# Altium footprint library Custom library.PcbLib: 80 footprints (part 3 of 5)
Each footprint in its own frame and in the unit in brackets; x right, y up, seen from the top. Pads: shape width x height; smd on the part's side, far side on the other; paste and mask are expansions set on the pad; w line width, h text height; cw(c..) or ccw(c..) is an arc to the next point about the centre after c.
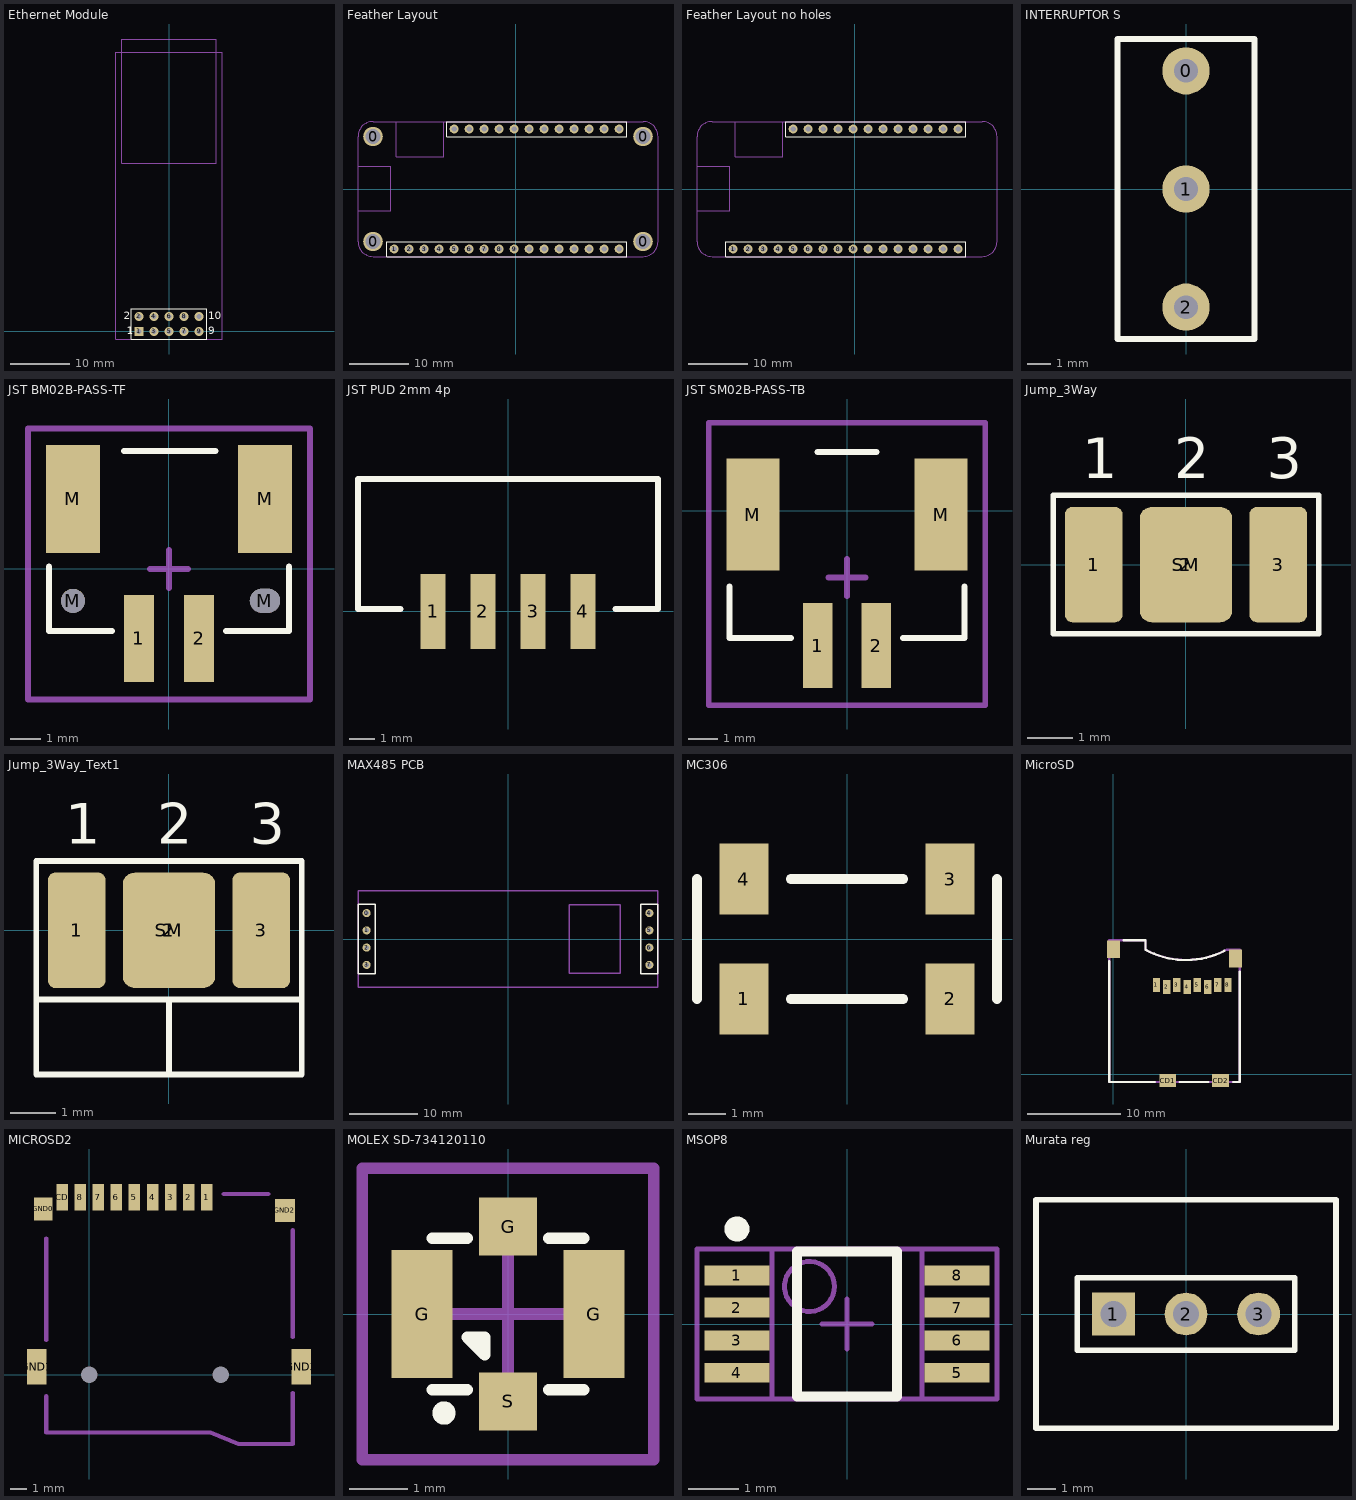
[diagram p2: the footprints below, top view; thin cyan lines are the x and y axes]

## Ethernet Module [mm] "Microchip ENC28J60"
pads (10):
  rect 1.5x1.5 hole 0.9: 1(-5.08,0)
  round 1.5 hole 0.9: 2(-5.08,2.54) 3(-2.54,0) 4(-2.54,2.54) 5(0,0) 6(0,2.54) 7(2.54,0) 8(2.54,2.54) 9(5.08,0) 10(5.08,2.54)
Top Overlay:
  lines w0.2: -6.35,-1.27 6.35,-1.27 6.35,3.81 -6.35,3.81 -6.35,-1.27
  text "10" at 6.604,2.032 h1.27
  text "9" at 6.604,-0.508 h1.27
  text "1" at -7.112,-0.508 h1.27
  text "2" at -7.62,2.032 h1.27
Mechanical 15:
  lines w0.2: -8,47.25 -7.98,47.23 ; -9,-1.27 9,-1.27 9,47.23 -9,47.23 -9,-1.27 ; -8,28.5 8,28.5 8,49.5 -8,49.5 -8,28.5
3D body: height 2.55, standoff 0.01, extent -6.35,-1.26 6.34,3.8
3D body: height 18.5, standoff 4.1, extent -8,28.5 8,49.5
3D body: height 4.1, standoff 2.6, extent -9,-1.27 9,47.23

## Feather Layout [mm] "Feather standart format"
pads (32):
  round 3.302 hole 2.54: 0(-24.13,-8.89) 0(-24.13,8.89) 0(21.59,-8.89) 0(21.59,8.89)
  round 1.5 hole 0.9: 1(-20.558,-10.16) 2(-18.018,-10.16) 3(-15.478,-10.16) 4(-12.938,-10.16) 5(-10.398,-10.16) 6(-7.858,-10.16) 7(-5.318,-10.16) 8(-2.778,-10.16) 9(-0.238,-10.16) 10(2.302,-10.16) 11(4.842,-10.16) 12(7.382,-10.16) 13(9.922,-10.16) 14(12.462,-10.16) 15(15.002,-10.16) 16(17.542,-10.16) 17(17.542,10.16) 18(15.002,10.16) 19(12.462,10.16) 20(9.922,10.16) 21(7.382,10.16) 22(4.842,10.16) 23(2.302,10.16) 24(-0.238,10.16) 25(-2.778,10.16) 26(-5.318,10.16) 27(-7.858,10.16) 28(-10.398,10.16)
Top Overlay:
  lines w0.2: -21.828,-11.43 -21.828,-8.89 -19.923,-8.89 18.812,-8.89 18.812,-11.43 -21.828,-11.43 ; -11.668,8.89 18.812,8.89 18.812,11.43 -9.763,11.43 -11.668,11.43 -11.668,8.89
Mechanical 1:
  lines w0.2: -26.67,-8.89 ccw(c-24.13,-8.89) -24.13,-11.43 21.59,-11.43 ccw(c21.59,-8.89) 24.13,-8.89 24.13,8.89 ccw(c21.59,8.89) 21.59,11.43 -24.13,11.43 ccw(c-24.13,8.89) -26.67,8.89 -26.67,-8.89 ; -26.67,-3.69 -21.15,-3.69 -21.15,3.85 -26.67,3.85 -26.67,-3.69 ; -20.161,5.43 -12.161,5.43 -12.161,11.43 -20.161,11.43 -20.161,5.43
3D body: height 9.8, standoff 2.6, extent -27.236,-11.38 23.95,11.48
3D body: height 2.55, standoff 0.01, extent -21.8,-11.41 18.78,-8.92
3D body: height 2.55, standoff 0.01, extent -11.64,8.92 18.78,11.4

## Feather Layout no holes [mm] "Feather standart format without holes"
pads (28):
  round 1.5 hole 0.9: 1(-20.558,-10.16) 2(-18.018,-10.16) 3(-15.478,-10.16) 4(-12.938,-10.16) 5(-10.398,-10.16) 6(-7.858,-10.16) 7(-5.318,-10.16) 8(-2.778,-10.16) 9(-0.238,-10.16) 10(2.302,-10.16) 11(4.842,-10.16) 12(7.382,-10.16) 13(9.922,-10.16) 14(12.462,-10.16) 15(15.002,-10.16) 16(17.542,-10.16) 17(17.542,10.16) 18(15.002,10.16) 19(12.462,10.16) 20(9.922,10.16) 21(7.382,10.16) 22(4.842,10.16) 23(2.302,10.16) 24(-0.238,10.16) 25(-2.778,10.16) 26(-5.318,10.16) 27(-7.858,10.16) 28(-10.398,10.16)
Top Overlay:
  lines w0.2: -21.828,-11.43 -21.828,-8.89 -19.923,-8.89 18.812,-8.89 18.812,-11.43 -21.828,-11.43 ; -11.668,8.89 18.812,8.89 18.812,11.43 -9.763,11.43 -11.668,11.43 -11.668,8.89
Mechanical 1:
  lines w0.2: -26.67,-3.69 -21.15,-3.69 -21.15,3.85 -26.67,3.85 -26.67,-3.69 ; -20.161,5.43 -12.161,5.43 -12.161,11.43 -20.161,11.43 -20.161,5.43
Mechanical 15:
  lines w0.2: -26.67,-8.89 ccw(c-24.13,-8.89) -24.13,-11.43 21.59,-11.43 ccw(c21.59,-8.89) 24.13,-8.89 24.13,8.89 ccw(c21.59,8.89) 21.59,11.43 -24.13,11.43 ccw(c-24.13,8.89) -26.67,8.89 -26.67,-8.89
3D body: height 9.8, standoff 2.6, extent -27.236,-11.38 23.95,11.48
3D body: height 2.55, standoff 0.01, extent -21.8,-11.41 18.78,-8.92
3D body: height 2.55, standoff 0.01, extent -11.64,8.92 18.78,11.4

## INTERRUPTOR S [mm] "Interruptor pequeño"
pads (3):
  round 2 hole 1: 0(0,5) 1(0,0) 2(0,-5)
Top Overlay:
  lines w0.254: -2.9,-6.35 -2.9,6.35 2.9,6.35 2.9,-6.35 -2.9,-6.35

## JST BM02B-PASS-TF [mm] "JST PA Series 2mm pitch, top entry connector"
height 11.1
pads (6):
  rect 1x2.9 smd: 1(-1,-2.325) 2(1,-2.325)
  round 0.8 hole 0.8 unplated mask+0.102: M(-3.2,-1.075)
  rect 1.8x3.6 smd: M(-3.2,2.325) M(3.2,2.325)
  oval 1x0.8 hole 0.8 slot 1 at 0 deg unplated mask+0.102: M(3.2,-1.075)
Top Overlay:
  lines w0.2: -4,0.075 -4,-2.075 -1.905,-2.075 ; -1.504,3.92 1.544,3.92 ; 1.905,-2.075 4,-2.075 4,0.075
Mechanical 15:
  lines w0.2: -0.635,-0.015 0.635,-0.015 ; 0,-0.65 0,0.62 ; -4.699,-4.357 4.699,-4.357 4.699,4.66 -4.699,4.66 -4.699,-4.357
3D body: height 9, standoff 0, extent -4,-3.225 4,3.875

## JST PUD 2mm 4p [mm] "Connector"
height 8
pads (4):
  rect 1x3 smd: 1(-3,0) 2(-1,0) 3(1,0) 4(3,0)
Top Overlay:
  lines w0.254: -4.3,0.1 -6,0.1 -6,5.3 6,5.3 6,0.1 4.3,0.1
3D body: height 8, standoff 0.5, extent -5.98,0.13 5.97,5.28

## JST SM02B-PASS-TB [mm] "JST PA Series 2mm pitch, side entry connector"
height 5.7
pads (4):
  rect 1x2.9 smd: 1(-1,-4.575) 2(1,-4.575)
  rect 1.8x3.8 smd: M(-3.2,-0.125) M(3.2,-0.125)
Top Overlay:
  lines w0.2: -4,-2.575 -4,-4.325 -1.905,-4.325 ; -1,2 1,2 ; 1.905,-4.325 4,-4.325 4,-2.575
Mechanical 15:
  lines w0.2: -0.635,-2.265 0.635,-2.265 ; 0,-2.9 0,-1.63 ; -4.699,-6.607 -4.699,3 4.699,3 4.699,-6.607 -4.699,-6.607
3D body: height 5.8, standoff 0, extent -4,-5.641 4,4.359

## Jump_3Way [mil] "SMT Battery jumper pads"
pads (4):
  rrect25% 50x100 smd: 1(-80,0) 3(80,0)
  rrect25% 80x100 smd: 2(0,0)
  rrect25% 218x108 on Top Solder: SM(0,0)
Top Overlay:
  lines w5: -115,-60 115,-60 115,60 -115,60 -115,-60
  text "3" at 70,75 h35
  text "2" at -10,75 h35
  text "1" at -90,75 h35
Mechanical 13:
  lines w3: -115,-60 115,-60 115,60 -115,60 -115,-60

## Jump_3Way_Text1 [mil] "SMT jumper for fixed or variable"
pads (4):
  rrect25% 50x100 smd: 1(-80,0) 3(80,0)
  rrect25% 80x100 smd: 2(0,0)
  rrect25% 218x108 on Top Solder: SM(0,0)
Top Overlay:
  lines w5: 0,-125 0,-60 ; -115,-60 -115,-125 115,-125 115,-60 ; -115,-60 -115,60 115,60 115,-60 ; -115,-60 115,-60
  text "1" at -90,75 h35
  text "2" at -10,75 h35
  text "3" at 70,75 h35
Mechanical 13:
  lines w3: -115,-60 -115,60 115,60 115,-60 -115,-60

## MAX485 PCB [mm] "Breakout Board MAX485"
height 11
pads (8):
  round 1.2 hole 0.7: 0(-20.75,3.81) 1(-20.75,1.27) 2(-20.75,-1.27) 3(-20.75,-3.81) 4(20.75,3.81) 5(20.75,1.27) 6(20.75,-1.27) 7(20.75,-3.81)
Top Overlay:
  lines w0.2: -22.02,-5.08 -19.48,-5.08 -19.48,5.08 -22.02,5.08 -22.02,-5.08 ; 19.48,-5.08 22.02,-5.08 22.02,5.08 19.48,5.08 19.48,-5.08
Mechanical 1:
  lines w0.2: -22,-7.1 -22,7.1 22,7.1 22,-7.1 -22,-7.1 ; 9,-5 16.5,-5 16.5,5 9,5 9,-5

## MC306 [mm] "SMD Crystal"
pads (4):
  rect 1.3x1.9 smd: 1(-2.75,-1.6) 2(2.75,-1.6) 3(2.75,1.6) 4(-2.75,1.6)
Top Overlay:
  lines w0.254: -4,-1.6 -4,1.6 ; -1.5,-1.6 1.5,-1.6 ; -1.5,1.6 1.5,1.6 ; 4,-1.6 4,1.6

## MicroSD [mm] "Socket MicroSD"
pads (12):
  rect 0.8x1.5 smd: 1(4.65,9.6) 2(5.75,9.4) 3(6.85,9.6) 4(7.95,9.4) 5(9.05,9.6) 6(10.15,9.4) 7(11.25,9.6) 8(12.35,9.6)
  rect 1.8x1.4 smd: CD1(5.85,-0.7) CD2(11.55,-0.7)
  rect 1.4x1.9 smd: GND1(0,13.45) GND2(13.15,12.45)
Top Overlay:
  lines w0.254: -0.45,12.17 -0.45,-0.85 4.46,-0.85 ; 1.13,14.4 3.47,14.4 3.47,13.39 ccw(c7.83,21.46) 11.96,13.27 ; 7.16,-0.85 10.22,-0.85 ; 12.91,-0.85 13.6,-0.85 13.6,11.06
Mechanical 1:
  lines w0.254: -0.45,-0.85 13.6,-0.85 13.6,13.39 12.19,13.39 cw(c7.83,21.499) 3.47,13.39 3.47,14.4 -0.45,14.4 -0.45,-0.85

## MICROSD2 [mm] "Socket microSD alternativo"
pads (15):
  rect 0.7x1.6 smd: 1(7.15,10.8) 2(6.05,10.8) 3(4.95,10.8) 4(3.85,10.8) 5(2.75,10.8) 6(1.65,10.8) 7(0.55,10.8) 8(-0.55,10.8) CD(-1.65,10.8)
  rect 1.1x1.4 smd: GND0(-2.8,10.1)
  rect 1.2x2.15 smd: GND1(-3.2,0.5) GND3(12.9,0.5)
  rect 1.2x1.4 smd: GND2(11.9,10)
  round 0 hole 1: HOLE1(0,0) HOLE2(8,0)
Mechanical 15:
  lines w0.254: -2.617,-1.3 -2.617,-3.5 7.383,-3.5 9.083,-4.2 12.383,-4.2 12.383,-1.1 ; -2.617,2.11 -2.617,8.3 ; 8.183,11 10.883,11 ; 12.383,2.3 12.383,8.8
3D body: height 2, standoff 0, extent -2.617,-4.2 12.383,11

## MOLEX SD-734120110 [mm]
height 1.3
pads (4):
  rect 1.05x2.2 smd: G(-1.475,0) G(1.475,0)
  rect 1x1 smd: G(0,1.5) S(0,-1.5)
Top Overlay:
  circle w0.2: c-1.1,-1.7 r0.1
  lines w0.2: -1.3,-1.3 -0.7,-1.3 ; -1.3,1.3 -0.7,1.3 ; 0.7,-1.3 1.3,-1.3 ; 0.7,1.3 1.3,1.3 ; -0.7,-0.4 -0.4,-0.4 -0.4,-0.7 -0.7,-0.4
Mechanical 15:
  lines w0.2: -1,0 1,0 ; 0,-1 0,1 ; -2.5,-2.5 -2.5,2.5 2.5,2.5 2.5,-2.5 -2.5,-2.5
3D body: height 1.3, standoff 0, extent -1.5,-1.54 1.5,1.54

## MSOP8 [mm]
pads (8):
  rect 1.3x0.4 smd: 1(-2.2,0.975) 2(-2.2,0.325) 3(-2.2,-0.325) 4(-2.2,-0.975) 5(2.2,-0.975) 6(2.2,-0.325) 7(2.2,0.325) 8(2.2,0.975)
Top Overlay:
  circle w0.25: c-2.2,1.9 r0.125
  lines w0.2: -1,-1.45 1,-1.45 1,1.45 -1,1.45 -1,-1.45
Mechanical 13:
  circle w0.1: c-0.75,0.75 r0.5
  lines w0.1: -1.5,-1.5 1.5,-1.5 1.5,1.5 -1.5,1.5 -1.5,-1.5
Mechanical 15:
  lines w0.1: -0.5,0 0.5,0 ; 0,-0.5 0,0.5 ; -3,-1.5 -3,1.5 3,1.5 3,-1.5 -3,-1.5
3D body: height 1.1, standoff 0, extent -1.5,-1.5 1.5,1.5

## Murata reg [mm] "3 pin header"
pads (3):
  rect 1.5x1.5 hole 0.9: 1(-2.54,0)
  round 1.5 hole 0.9: 2(0,0) 3(2.54,0)
Top Overlay:
  lines w0.2: -5.25,-4 5.25,-4 5.25,4 -5.25,4 -5.25,-4 ; -3.81,-1.27 3.81,-1.27 3.81,1.27 -3.81,1.27 -3.81,-1.27
3D body: height 3, standoff 0.5, extent -3.85,-1.23 3.8,1.26
3D body: height 17, standoff 1, extent -5.2,1.26 5.19,2.13